# EAGLE library part 5V3A_KIC-053 (library DC-DC)
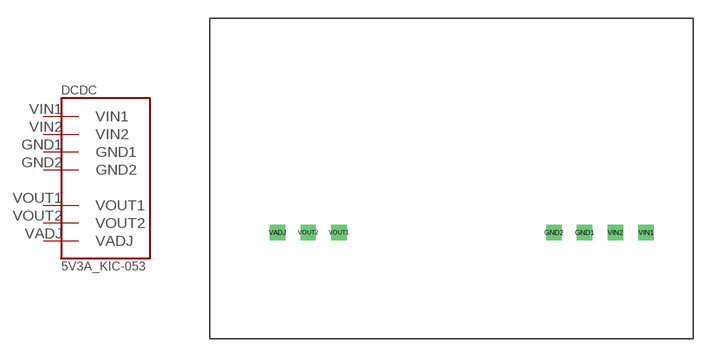
[diagram p0: symbol with the pads of 5V3A_KIC-053; footprint 5V3A_KIC-053]

Designator prefix DCDC

## 5V3A_KIC-053  [5V3A_KIC-053]
GND1  GND1
GND2  GND2
VADJ  VADJ
VIN1  VIN1
VIN2  VIN2
VOUT1  VOUT1
VOUT2  VOUT2

## Footprint 5V3A_KIC-053 (pad centres in mm)
drill 0.7 pad 1.27 square: GND1 11.01,0; GND2 8.47,0; VADJ -14.39,0; VIN1 16.09,0; VIN2 13.55,0; VOUT1 -9.31,0; VOUT2 -11.85,0